# Altium schematic symbol library ZeroDelayBuffer.SchLib: 1 symbol
Pins are listed as number, name and electrical type; pins without a type are passive.

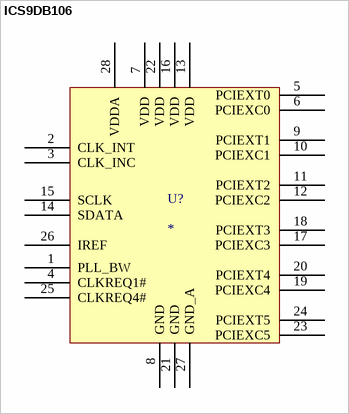
[diagram p0: symbol ICS9DB106]

## ICS9DB106
designator U?
Zero Delay Buffer; Digikey Part Number: 800-1242-1-ND
footprint SOP127P600-8N
pins: 1 PLL_BW, 2 CLK_INT, 3 CLK_INC, 4 CLKREQ1#, 5 PCIEXT0, 6 PCIEXC0, 7 VDD, 8 GND, 9 PCIEXT1, 10 PCIEXC1, 11 PCIEXT2, 12 PCIEXC2, 13 VDD, 14 SDATA, 15 SCLK, 16 VDD, 17 PCIEXC3, 18 PCIEXT3, 19 PCIEXC4, 20 PCIEXT4, 21 GND, 22 VDD, 23 PCIEXC5, 24 PCIEXT5, 25 CLKREQ4#, 26 IREF, 27 GND_A, 28 VDDA